# Altium footprint library TE_619540-1.PcbLib: 1 footprints
Each footprint in its own frame and in the unit in brackets; x right, y up, seen from the top. Pads: shape width x height; smd on the part's side, far side on the other; paste and mask are expansions set on the pad; w line width, h text height; cw(c..) or ccw(c..) is an arc to the next point about the centre after c.
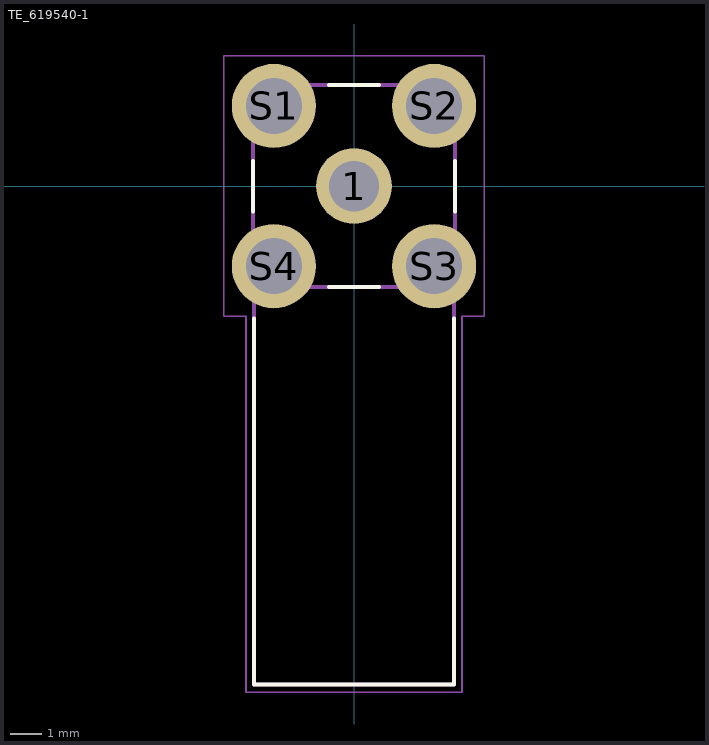
[diagram p0: the footprint, top view; thin cyan lines are the x and y axes]

## TE_619540-1 [mm]
pads (5):
  round 2.4 hole 1.6: 1(0,0)
  round 2.67 hole 1.78: S1(-2.54,2.54) S2(2.54,2.54) S3(2.54,-2.54) S4(-2.54,-2.54)
Top Overlay:
  lines w0.127: -3.2,-0.8 -3.2,0.8 ; -3.175,-4.2 -3.175,-15.8 3.175,-15.8 3.175,-4.2 ; -0.8,-3.2 0.8,-3.2 ; -0.8,3.2 0.8,3.2 ; 3.2,-0.8 3.2,0.8
Mechanical 13:
  lines w0.127: -3.175,-3.2 -3.2,-3.2 -3.2,3.2 3.2,3.2 3.2,-3.2 3.175,-3.2 ; -3.175,-3.2 3.175,-3.2 ; -3.175,-3.2 -3.175,-15.8 3.175,-15.8 3.175,-3.2
Mechanical 15:
  lines w0.05: -4.13,-4.13 -4.13,4.13 4.13,4.13 4.13,-4.13 3.425,-4.13 3.425,-16.05 -3.425,-16.05 -3.425,-4.13 -4.13,-4.13